# Altium footprint library Resistor.PcbLib: 3 footprints
Each footprint in its own frame and in the unit in brackets; x right, y up, seen from the top. Pads: shape width x height; smd on the part's side, far side on the other; paste and mask are expansions set on the pad; w line width, h text height; cw(c..) or ccw(c..) is an arc to the next point about the centre after c.
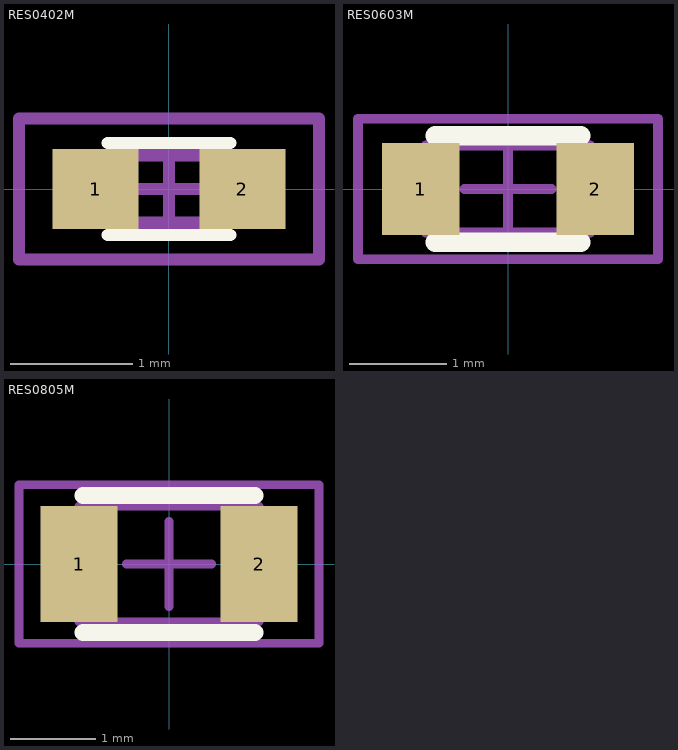
[diagram p0: the footprints below, top view; thin cyan lines are the x and y axes]

## RES0402M [mm] "Chip Resistor, 2-Leads, Body 1,0x0,5mm, IPC Medium Density"
height 0.4
pads (2):
  rect 0.7x0.65 smd: 1(-0.6,0) 2(0.6,0)
Top Overlay:
  lines w0.1: -0.5,-0.375 0.5,-0.375 ; -0.5,0.375 0.5,0.375
Mechanical 1:
  lines w0.1: -0.525,-0.275 -0.525,0.275 0.525,0.275 0.525,-0.275 -0.525,-0.275
Mechanical 15:
  lines w0.1: -0.275,0 0.275,0 ; 0,-0.275 0,0.275 ; -1.225,-0.575 -1.225,0.575 1.225,0.575 1.225,-0.575 -1.225,-0.575
3D body: height 0.35, standoff 0, extent -0.5,-0.25 0.5,0.25

## RES0603M [mm] "Chip Resistor, 2-Leads, Body 1,6x0,8mm, IPC Medium Density"
height 0.55
pads (2):
  rect 0.8x0.95 smd: 1(-0.9,0) 2(0.9,0)
Top Overlay:
  lines w0.2: -0.75,-0.55 0.75,-0.55 ; -0.75,0.55 0.75,0.55
Mechanical 1:
  lines w0.1: -0.85,-0.45 0.85,-0.45 0.85,0.45 -0.85,0.45 -0.85,-0.45
Mechanical 15:
  lines w0.1: -0.45,0 0.45,0 ; 0,-0.45 0,0.45 ; -1.55,-0.725 1.55,-0.725 1.55,0.725 -1.55,0.725 -1.55,-0.725
3D body: height 0.44, standoff -0.01, extent -0.799,-0.422 0.841,0.428

## RES0805M [mm] "Chip Resistor, 2-Leads, Body 2,0x1,3mm, IPC Medium Density"
height 0.65
pads (2):
  rect 0.9x1.35 smd: 1(-1.05,0) 2(1.05,0)
Top Overlay:
  lines w0.2: -1,-0.8 1,-0.8 ; -1,0.8 1,0.8
Mechanical 1:
  lines w0.1: -1.05,-0.675 1.05,-0.675 1.05,0.675 -1.05,0.675 -1.05,-0.675
Mechanical 15:
  lines w0.1: -0.5,0 0.5,0 ; 0,-0.5 0,0.5 ; -1.75,-0.925 1.75,-0.925 1.75,0.925 -1.75,0.925 -1.75,-0.925
3D body: height -0.4, standoff -0.85, extent -1,-0.625 1,0.625